# EAGLE library part ST-D4 (library trafo-siemens)
TRANSFORMER
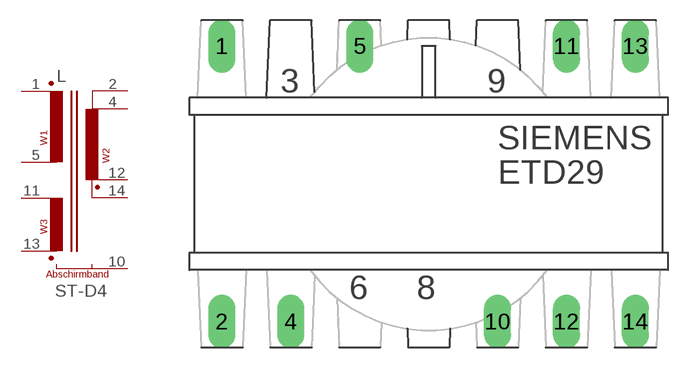
[diagram p5: symbol with the pads of ST-D4; footprint ST-D4]

Designator prefix L

## ST-D4  [ST-D4]
1  1A  pas
2  2E  pas
4  2E1  pas
5  1E  pas
10  SCH  pas
11  3E  pas
12  2A  pas
13  3A  pas
14  2A1  pas

## Footprint ST-D4 (pad centres in mm)
TRANSFORMER
drill 1.321 long: 1 -15.24,10.16; 2 -15.24,-10.16; 4 -10.16,-10.16; 5 -5.08,10.16; 10 5.08,-10.16; 11 10.16,10.16; 12 10.16,-10.16; 13 15.24,10.16; 14 15.24,-10.16